# EAGLE library part ATXMEGA128C3 (library atmega-atxmega)
8/16-bit XMEGA C3 Microcontroller Features High-performance, low-power Atmel® AVR® XMEGA® 8/16-bit Microcontroller Nonvolatile program and data memories – 64K - 256KBytes of In-System Self-Programmable Flash – 4K - 8KBytes Boot Code Section with Independent Lock Bits – 2K - 4KBytes EEPROM – 4K - 16KBytes Internal SRAM Peripheral features – Four-channel event system – Five 16-bit timer/counters Four timer/counters with four output compare or input capture channels One timer/counter with two output compare or input capture channels High resolution extension on two timer/counters Advanced waveform extension (AWeX) on one timer/counter – One USB device interface USB 2.0 full speed (12Mbps) and low speed (1.5Mbps) device compliant 32 Endpoints with full configuration flexibility – Three USARTs with IrDA support for one USART – Two two-wire interfaces with dual address match (I2C and SMBus compatible) – Two serial peripheral interfaces (SPIs) – CRC-16 (CRC-CCITT) and CRC-32 (IEEE®802.3) generator – 16-bit real time counter (RTC) with separate oscillator – One sixteen-channel, 12-bit, 300ksps Analog to Digital Converter – Two Analog Comparators with window compare function, and current sources – External interrupts on all general purpose I/O pins – Programmable watchdog timer with separate on-chip ultra low power oscillator – QTouch® library support Capacitive touch buttons, sliders and wheels Special microcontroller features – Power-on reset and programmable brown-out detection – Internal and external clock options with PLL and prescaler – Programmable multilevel interrupt controller – Five sleep modes – Programming and debug interface PDI (program and debug interface) I/O and packages – 50 programmable I/O pins – 64-lead TQFP – 64-pad QFN Operating voltage – 1.6 – 3.6V Operating frequency – 0 – 12MHz from 1.6V – 0 – 32MHz from 2.7V
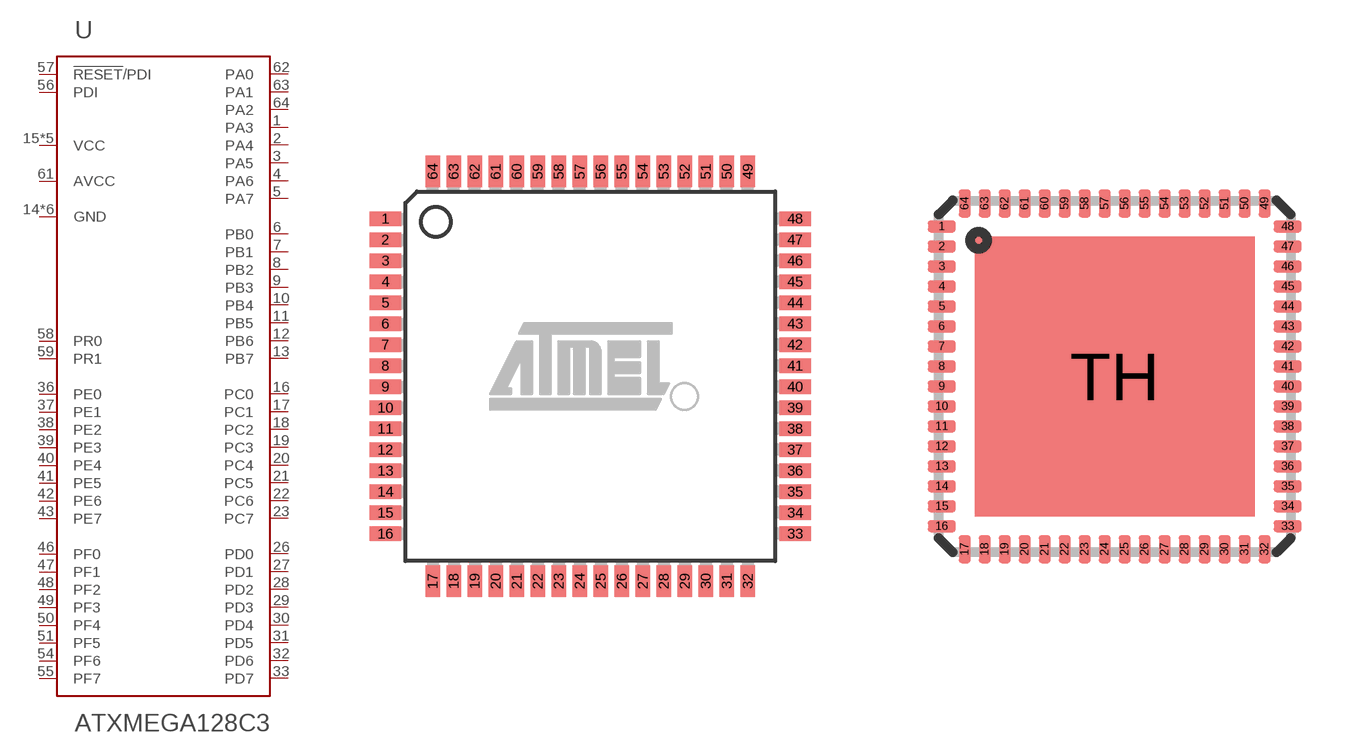
[diagram p124: symbol with the pads of TQFP-64A-64; footprints TQFP-64A-64, MLF-(VQFN)-64M2-64]

Designator prefix U

## ATXMEGA128C3-AU  [TQFP-64A-64]
1  PA3
2  PA4
3  PA5
4  PA6
5  PA7
6  PB0
7  PB1
8  PB2
9  PB3
10  PB4
11  PB5
12  PB6
13  PB7
14  GND  pwr
15  VCC  pwr
16  PC0
17  PC1
18  PC2
19  PC3
20  PC4
21  PC5
22  PC6
23  PC7
24  GND  pwr
25  VCC  pwr
26  PD0
27  PD1
28  PD2
29  PD3
30  PD4
31  PD5
32  PD6
33  PD7
34  GND  pwr
35  VCC  pwr
36  PE0
37  PE1
38  PE2
39  PE3
40  PE4
41  PE5
42  PE6
43  PE7
44  GND  pwr
45  VCC  pwr
46  PF0
47  PF1
48  PF2
49  PF3
50  PF4
51  PF5
52  GND  pwr
53  VCC  pwr
54  PF6
55  PF7
56  PDI
57  !RESET!/PDI
58  PR0
59  PR1
60  GND  pwr
61  AVCC  pwr
62  PA0
63  PA1
64  PA2

## ATXMEGA128C3-MH  [MLF-(VQFN)-64M2-64]
1  PA3
2  PA4
3  PA5
4  PA6
5  PA7
6  PB0
7  PB1
8  PB2
9  PB3
10  PB4
11  PB5
12  PB6
13  PB7
14  GND  pwr
15  VCC  pwr
16  PC0
17  PC1
18  PC2
19  PC3
20  PC4
21  PC5
22  PC6
23  PC7
24  GND  pwr
25  VCC  pwr
26  PD0
27  PD1
28  PD2
29  PD3
30  PD4
31  PD5
32  PD6
33  PD7
34  GND  pwr
35  VCC  pwr
36  PE0
37  PE1
38  PE2
39  PE3
40  PE4
41  PE5
42  PE6
43  PE7
44  GND  pwr
45  VCC  pwr
46  PF0
47  PF1
48  PF2
49  PF3
50  PF4
51  PF5
52  GND  pwr
53  VCC  pwr
54  PF6
55  PF7
56  PDI
57  !RESET!/PDI
58  PR0
59  PR1
60  GND  pwr
61  AVCC  pwr
62  PA0
63  PA1
64  PA2
TH  GND  pwr

## Footprint TQFP-64A-64 (pad centres in mm)
64A, 64-lead, 14 x 14 mm Body Size, 1.0 mm Body Thickness, 0.8 mm Lead Pitch, Thin Profile Plastic Quad Flat Package (TQFP)
smd 1.194 x 0.559: 1 -7.8,6; 2 -7.8,5.2; 3 -7.8,4.4; 4 -7.8,3.6; 5 -7.8,2.8; 6 -7.8,2; 7 -7.8,1.2; 8 -7.8,0.4; 9 -7.8,-0.4; 10 -7.8,-1.2; 11 -7.8,-2; 12 -7.8,-2.8; 13 -7.8,-3.6; 14 -7.8,-4.4; 15 -7.8,-5.2; 16 -7.8,-6; 33 7.8,-6; 34 7.8,-5.2; 35 7.8,-4.4; 36 7.8,-3.6; 37 7.8,-2.8; 38 7.8,-2; 39 7.8,-1.2; 40 7.8,-0.4; 41 7.8,0.4; 42 7.8,1.2; 43 7.8,2; 44 7.8,2.8; 45 7.8,3.6; 46 7.8,4.4; 47 7.8,5.2; 48 7.8,6
smd 0.559 x 1.194: 17 -6,-7.8; 18 -5.2,-7.8; 19 -4.4,-7.8; 20 -3.6,-7.8; 21 -2.8,-7.8; 22 -2,-7.8; 23 -1.2,-7.8; 24 -0.4,-7.8; 25 0.4,-7.8; 26 1.2,-7.8; 27 2,-7.8; 28 2.8,-7.8; 29 3.6,-7.8; 30 4.4,-7.8; 31 5.2,-7.8; 32 6,-7.8; 49 6,7.8; 50 5.2,7.8; 51 4.4,7.8; 52 3.6,7.8; 53 2.8,7.8; 54 2,7.8; 55 1.2,7.8; 56 0.4,7.8; 57 -0.4,7.8; 58 -1.2,7.8; 59 -2,7.8; 60 -2.8,7.8; 61 -3.6,7.8; 62 -4.4,7.8; 63 -5.2,7.8; 64 -6,7.8

## Footprint MLF-(VQFN)-64M2-64 (pad centres in mm)
64M2, 64-pad, 9 x 9 x 1.0 mm Body, Lead Pitch 0.50 mm, 7.65 mm Exposed Pad, Micro Lead Frame Package (MLF)
smd 0.7 x 0.3: 1 -4.325,3.75; 2 -4.325,3.25; 3 -4.325,2.75; 4 -4.325,2.25; 5 -4.325,1.75; 6 -4.325,1.25; 7 -4.325,0.75; 8 -4.325,0.25; 9 -4.325,-0.25; 10 -4.325,-0.75; 11 -4.325,-1.25; 12 -4.325,-1.75; 13 -4.325,-2.25; 14 -4.325,-2.75; 15 -4.325,-3.25; 16 -4.325,-3.75; 33 4.325,-3.75; 34 4.325,-3.25; 35 4.325,-2.75; 36 4.325,-2.25; 37 4.325,-1.75; 38 4.325,-1.25; 39 4.325,-0.75; 40 4.325,-0.25; 41 4.325,0.25; 42 4.325,0.75; 43 4.325,1.25; 44 4.325,1.75; 45 4.325,2.25; 46 4.325,2.75; 47 4.325,3.25; 48 4.325,3.75
smd 0.3 x 0.7: 17 -3.75,-4.325; 18 -3.25,-4.325; 19 -2.75,-4.325; 20 -2.25,-4.325; 21 -1.75,-4.325; 22 -1.25,-4.325; 23 -0.75,-4.325; 24 -0.25,-4.325; 25 0.25,-4.325; 26 0.75,-4.325; 27 1.25,-4.325; 28 1.75,-4.325; 29 2.25,-4.325; 30 2.75,-4.325; 31 3.25,-4.325; 32 3.75,-4.325; 49 3.75,4.325; 50 3.25,4.325; 51 2.75,4.325; 52 2.25,4.325; 53 1.75,4.325; 54 1.25,4.325; 55 0.75,4.325; 56 0.25,4.325; 57 -0.25,4.325; 58 -0.75,4.325; 59 -1.25,4.325; 60 -1.75,4.325; 61 -2.25,4.325; 62 -2.75,4.325; 63 -3.25,4.325; 64 -3.75,4.325
smd 7 x 7: TH 0,0